# Altium schematic symbol library MCU_ST_STM32F0.SchLib: 133 symbols (part 3 of 3)

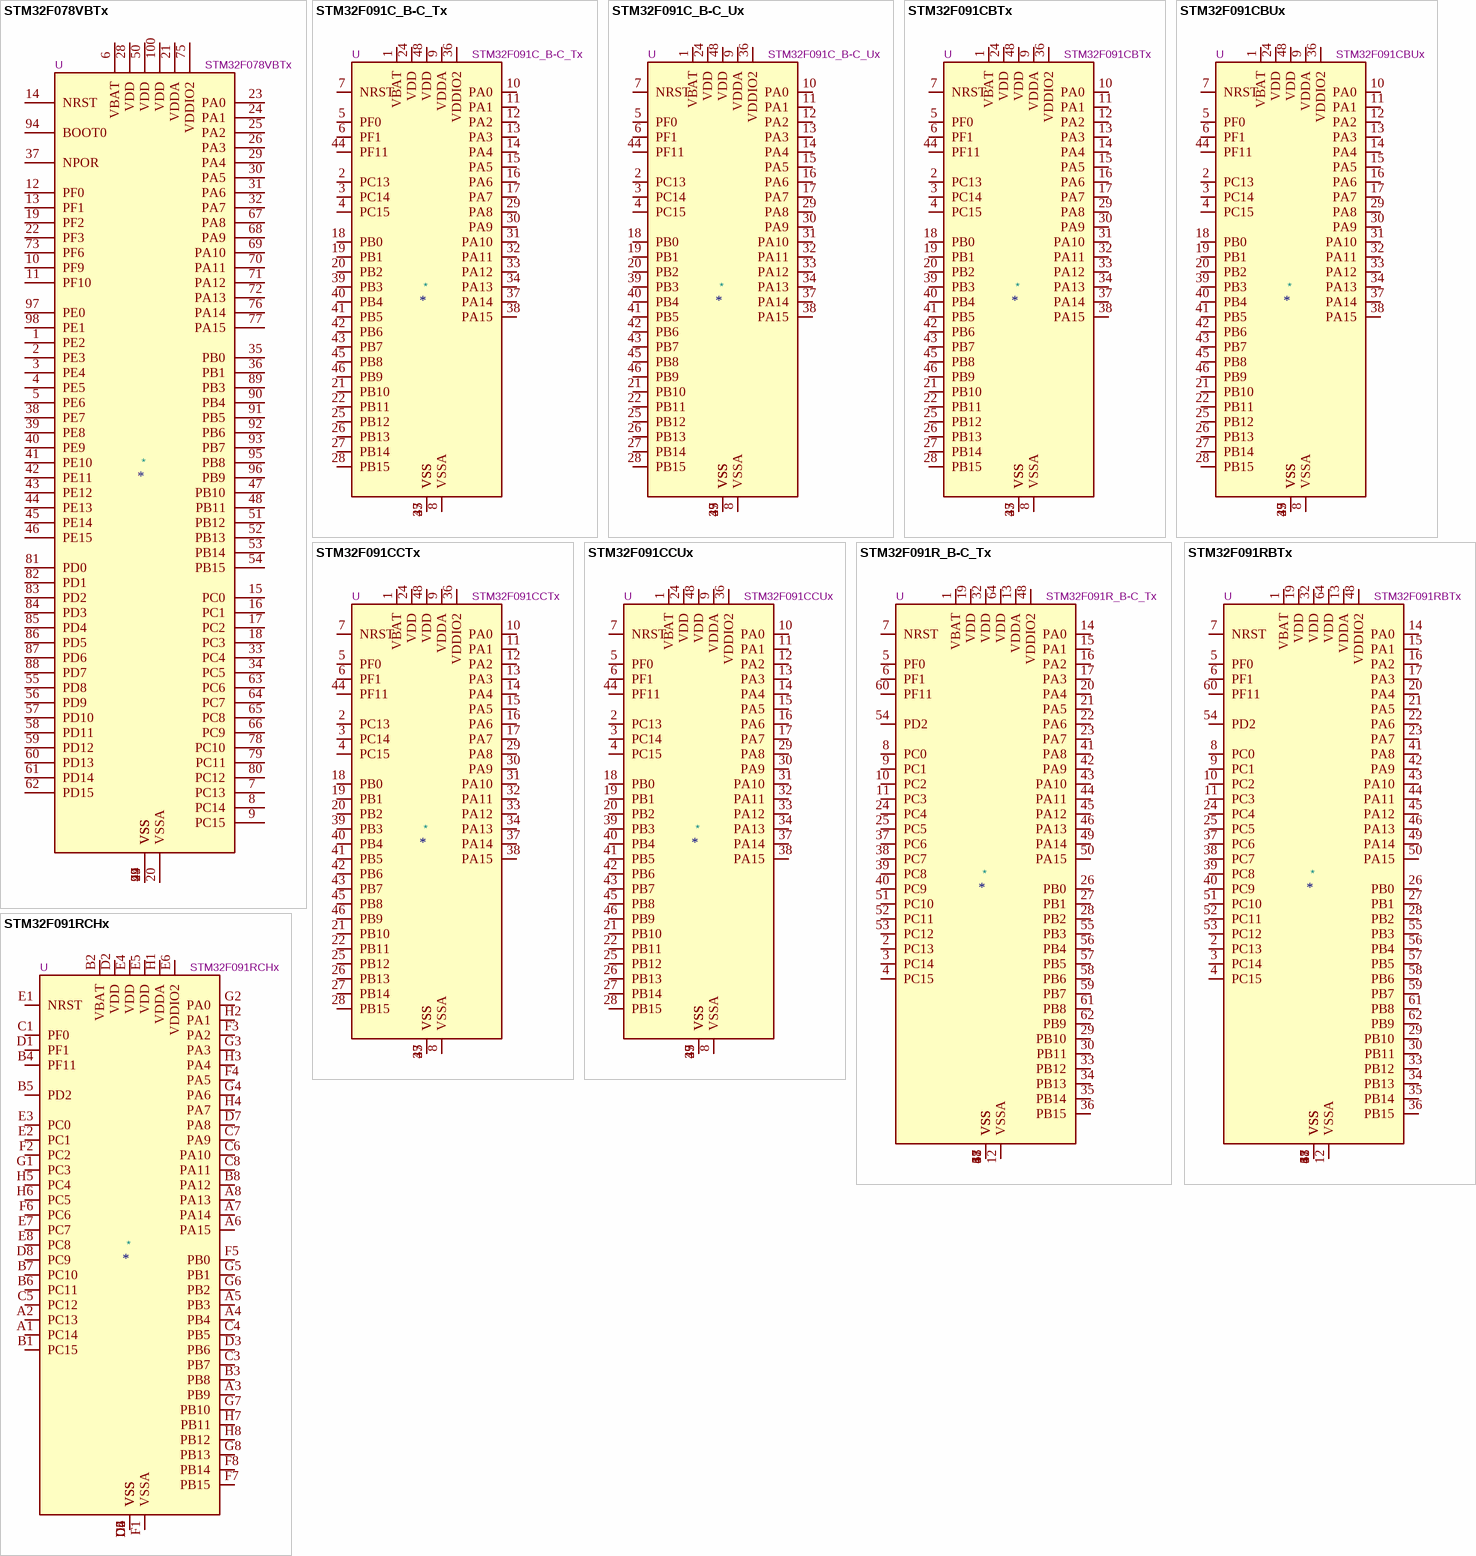
[diagram p9: symbols STM32F078VBTx to STM32F091RCHx]

## STM32F078VBTx
designator *  value STM32F078VBTx  Reference: U
STMicroelectronics Arm Cortex-M0 MCU, 128KB flash, 16KB RAM, 48 MHz, 1.65-1.95V, 86 GPIO, LQFP100; ki_keywords: Arm Cortex-M0 STM32F0 STM32F0x8; ki_fp_filters: LQFP*14x14mm*P0.5mm*; Footprint: Package_QFP:LQFP-100_14x14mm_P0.5mm; Datasheet: https://www.st.com/resource/en/datasheet/stm32f078vb.pdf; Description_: STMicroelectronics Arm Cortex-M0 MCU, 128KB flash, 16KB RAM, 48 MHz, 1.65-1.95V, 86 GPIO, LQFP100
pins: 1 PE2, 2 PE3, 3 PE4, 4 PE5, 5 PE6, 6 VBAT, 7 PC13, 8 PC14, 9 PC15, 10 PF9, 11 PF10, 12 PF0, 13 PF1, 14 NRST, 15 PC0, 16 PC1, 17 PC2, 18 PC3, 19 PF2, 20 VSSA, 21 VDDA, 22 PF3, 23 PA0, 24 PA1, 25 PA2, 26 PA3, 27 VSS, 28 VDD, 29 PA4, 30 PA5, 31 PA6, 32 PA7, 33 PC4, 34 PC5, 35 PB0, 36 PB1, 37 NPOR, 38 PE7, 39 PE8, 40 PE9, 41 PE10, 42 PE11, 43 PE12, 44 PE13, 45 PE14, 46 PE15, 47 PB10, 48 PB11, 49 VSS, 50 VDD, 51 PB12, 52 PB13, 53 PB14, 54 PB15, 55 PD8, 56 PD9, 57 PD10, 58 PD11, 59 PD12, 60 PD13, 61 PD14, 62 PD15, 63 PC6, 64 PC7, 65 PC8, 66 PC9, 67 PA8, 68 PA9, 69 PA10, 70 PA11, 71 PA12, 72 PA13, 73 PF6, 74 VSS, 75 VDDIO2, 76 PA14, 77 PA15, 78 PC10, 79 PC11, 80 PC12, 81 PD0, 82 PD1, 83 PD2, 84 PD3, 85 PD4, 86 PD5, 87 PD6, 88 PD7, 89 PB3, 90 PB4, 91 PB5, 92 PB6, 93 PB7, 94 BOOT0, 95 PB8, 96 PB9, 97 PE0, 98 PE1, 99 VSS, 100 VDD

## STM32F091C_B-C_Tx
designator *  value STM32F091C_B-C_Tx  Reference: U
STMicroelectronics Arm Cortex-M0 MCU, 128-256KB flash, 32KB RAM, 48 MHz, 2.0-3.6V, 38 GPIO, LQFP48; ki_keywords: Arm Cortex-M0 STM32F0 STM32F0x1; ki_fp_filters: LQFP*7x7mm*P0.5mm*; Footprint: Package_QFP:LQFP-48_7x7mm_P0.5mm; Datasheet: https://www.st.com/resource/en/datasheet/stm32f091cb.pdf; Description_: STMicroelectronics Arm Cortex-M0 MCU, 128-256KB flash, 32KB RAM, 48 MHz, 2.0-3.6V, 38 GPIO, LQFP48
pins: 1 VBAT, 2 PC13, 3 PC14, 4 PC15, 5 PF0, 6 PF1, 7 NRST, 8 VSSA, 9 VDDA, 10 PA0, 11 PA1, 12 PA2, 13 PA3, 14 PA4, 15 PA5, 16 PA6, 17 PA7, 18 PB0, 19 PB1, 20 PB2, 21 PB10, 22 PB11, 23 VSS, 24 VDD, 25 PB12, 26 PB13, 27 PB14, 28 PB15, 29 PA8, 30 PA9, 31 PA10, 32 PA11, 33 PA12, 34 PA13, 35 VSS, 36 VDDIO2, 37 PA14, 38 PA15, 39 PB3, 40 PB4, 41 PB5, 42 PB6, 43 PB7, 44 PF11, 45 PB8, 46 PB9, 47 VSS, 48 VDD

## STM32F091C_B-C_Ux
designator *  value STM32F091C_B-C_Ux  Reference: U
STMicroelectronics Arm Cortex-M0 MCU, 128-256KB flash, 32KB RAM, 48 MHz, 2.0-3.6V, 38 GPIO, UFQFPN48; ki_keywords: Arm Cortex-M0 STM32F0 STM32F0x1; ki_fp_filters: QFN*1EP*7x7mm*P0.5mm*; Footprint: Package_DFN_QFN:QFN-48-1EP_7x7mm_P0.5mm_EP5.6x5.6mm; Datasheet: https://www.st.com/resource/en/datasheet/stm32f091cb.pdf; Description_: STMicroelectronics Arm Cortex-M0 MCU, 128-256KB flash, 32KB RAM, 48 MHz, 2.0-3.6V, 38 GPIO, UFQFPN48
pins: 1 VBAT, 2 PC13, 3 PC14, 4 PC15, 5 PF0, 6 PF1, 7 NRST, 8 VSSA, 9 VDDA, 10 PA0, 11 PA1, 12 PA2, 13 PA3, 14 PA4, 15 PA5, 16 PA6, 17 PA7, 18 PB0, 19 PB1, 20 PB2, 21 PB10, 22 PB11, 23 VSS, 24 VDD, 25 PB12, 26 PB13, 27 PB14, 28 PB15, 29 PA8, 30 PA9, 31 PA10, 32 PA11, 33 PA12, 34 PA13, 35 VSS, 36 VDDIO2, 37 PA14, 38 PA15, 39 PB3, 40 PB4, 41 PB5, 42 PB6, 43 PB7, 44 PF11, 45 PB8, 46 PB9, 47 VSS, 48 VDD, 49 VSS

## STM32F091CBTx
designator *  value STM32F091CBTx  Reference: U
STMicroelectronics Arm Cortex-M0 MCU, 128KB flash, 32KB RAM, 48 MHz, 2.0-3.6V, 38 GPIO, LQFP48; ki_keywords: Arm Cortex-M0 STM32F0 STM32F0x1; ki_fp_filters: LQFP*7x7mm*P0.5mm*; Footprint: Package_QFP:LQFP-48_7x7mm_P0.5mm; Datasheet: https://www.st.com/resource/en/datasheet/stm32f091cb.pdf; Description_: STMicroelectronics Arm Cortex-M0 MCU, 128KB flash, 32KB RAM, 48 MHz, 2.0-3.6V, 38 GPIO, LQFP48
pins: 1 VBAT, 2 PC13, 3 PC14, 4 PC15, 5 PF0, 6 PF1, 7 NRST, 8 VSSA, 9 VDDA, 10 PA0, 11 PA1, 12 PA2, 13 PA3, 14 PA4, 15 PA5, 16 PA6, 17 PA7, 18 PB0, 19 PB1, 20 PB2, 21 PB10, 22 PB11, 23 VSS, 24 VDD, 25 PB12, 26 PB13, 27 PB14, 28 PB15, 29 PA8, 30 PA9, 31 PA10, 32 PA11, 33 PA12, 34 PA13, 35 VSS, 36 VDDIO2, 37 PA14, 38 PA15, 39 PB3, 40 PB4, 41 PB5, 42 PB6, 43 PB7, 44 PF11, 45 PB8, 46 PB9, 47 VSS, 48 VDD

## STM32F091CBUx
designator *  value STM32F091CBUx  Reference: U
STMicroelectronics Arm Cortex-M0 MCU, 128KB flash, 32KB RAM, 48 MHz, 2.0-3.6V, 38 GPIO, UFQFPN48; ki_keywords: Arm Cortex-M0 STM32F0 STM32F0x1; ki_fp_filters: QFN*1EP*7x7mm*P0.5mm*; Footprint: Package_DFN_QFN:QFN-48-1EP_7x7mm_P0.5mm_EP5.6x5.6mm; Datasheet: https://www.st.com/resource/en/datasheet/stm32f091cb.pdf; Description_: STMicroelectronics Arm Cortex-M0 MCU, 128KB flash, 32KB RAM, 48 MHz, 2.0-3.6V, 38 GPIO, UFQFPN48
pins: 1 VBAT, 2 PC13, 3 PC14, 4 PC15, 5 PF0, 6 PF1, 7 NRST, 8 VSSA, 9 VDDA, 10 PA0, 11 PA1, 12 PA2, 13 PA3, 14 PA4, 15 PA5, 16 PA6, 17 PA7, 18 PB0, 19 PB1, 20 PB2, 21 PB10, 22 PB11, 23 VSS, 24 VDD, 25 PB12, 26 PB13, 27 PB14, 28 PB15, 29 PA8, 30 PA9, 31 PA10, 32 PA11, 33 PA12, 34 PA13, 35 VSS, 36 VDDIO2, 37 PA14, 38 PA15, 39 PB3, 40 PB4, 41 PB5, 42 PB6, 43 PB7, 44 PF11, 45 PB8, 46 PB9, 47 VSS, 48 VDD, 49 VSS

## STM32F091CCTx
designator *  value STM32F091CCTx  Reference: U
STMicroelectronics Arm Cortex-M0 MCU, 256KB flash, 32KB RAM, 48 MHz, 2.0-3.6V, 38 GPIO, LQFP48; ki_keywords: Arm Cortex-M0 STM32F0 STM32F0x1; ki_fp_filters: LQFP*7x7mm*P0.5mm*; Footprint: Package_QFP:LQFP-48_7x7mm_P0.5mm; Datasheet: https://www.st.com/resource/en/datasheet/stm32f091cc.pdf; Description_: STMicroelectronics Arm Cortex-M0 MCU, 256KB flash, 32KB RAM, 48 MHz, 2.0-3.6V, 38 GPIO, LQFP48
pins: 1 VBAT, 2 PC13, 3 PC14, 4 PC15, 5 PF0, 6 PF1, 7 NRST, 8 VSSA, 9 VDDA, 10 PA0, 11 PA1, 12 PA2, 13 PA3, 14 PA4, 15 PA5, 16 PA6, 17 PA7, 18 PB0, 19 PB1, 20 PB2, 21 PB10, 22 PB11, 23 VSS, 24 VDD, 25 PB12, 26 PB13, 27 PB14, 28 PB15, 29 PA8, 30 PA9, 31 PA10, 32 PA11, 33 PA12, 34 PA13, 35 VSS, 36 VDDIO2, 37 PA14, 38 PA15, 39 PB3, 40 PB4, 41 PB5, 42 PB6, 43 PB7, 44 PF11, 45 PB8, 46 PB9, 47 VSS, 48 VDD

## STM32F091CCUx
designator *  value STM32F091CCUx  Reference: U
STMicroelectronics Arm Cortex-M0 MCU, 256KB flash, 32KB RAM, 48 MHz, 2.0-3.6V, 38 GPIO, UFQFPN48; ki_keywords: Arm Cortex-M0 STM32F0 STM32F0x1; ki_fp_filters: QFN*1EP*7x7mm*P0.5mm*; Footprint: Package_DFN_QFN:QFN-48-1EP_7x7mm_P0.5mm_EP5.6x5.6mm; Datasheet: https://www.st.com/resource/en/datasheet/stm32f091cc.pdf; Description_: STMicroelectronics Arm Cortex-M0 MCU, 256KB flash, 32KB RAM, 48 MHz, 2.0-3.6V, 38 GPIO, UFQFPN48
pins: 1 VBAT, 2 PC13, 3 PC14, 4 PC15, 5 PF0, 6 PF1, 7 NRST, 8 VSSA, 9 VDDA, 10 PA0, 11 PA1, 12 PA2, 13 PA3, 14 PA4, 15 PA5, 16 PA6, 17 PA7, 18 PB0, 19 PB1, 20 PB2, 21 PB10, 22 PB11, 23 VSS, 24 VDD, 25 PB12, 26 PB13, 27 PB14, 28 PB15, 29 PA8, 30 PA9, 31 PA10, 32 PA11, 33 PA12, 34 PA13, 35 VSS, 36 VDDIO2, 37 PA14, 38 PA15, 39 PB3, 40 PB4, 41 PB5, 42 PB6, 43 PB7, 44 PF11, 45 PB8, 46 PB9, 47 VSS, 48 VDD, 49 VSS

## STM32F091R_B-C_Tx
designator *  value STM32F091R_B-C_Tx  Reference: U
STMicroelectronics Arm Cortex-M0 MCU, 128-256KB flash, 32KB RAM, 48 MHz, 2.0-3.6V, 52 GPIO, LQFP64; ki_keywords: Arm Cortex-M0 STM32F0 STM32F0x1; ki_fp_filters: LQFP*10x10mm*P0.5mm*; Footprint: Package_QFP:LQFP-64_10x10mm_P0.5mm; Datasheet: https://www.st.com/resource/en/datasheet/stm32f091rb.pdf; Description_: STMicroelectronics Arm Cortex-M0 MCU, 128-256KB flash, 32KB RAM, 48 MHz, 2.0-3.6V, 52 GPIO, LQFP64
pins: 1 VBAT, 2 PC13, 3 PC14, 4 PC15, 5 PF0, 6 PF1, 7 NRST, 8 PC0, 9 PC1, 10 PC2, 11 PC3, 12 VSSA, 13 VDDA, 14 PA0, 15 PA1, 16 PA2, 17 PA3, 18 VSS, 19 VDD, 20 PA4, 21 PA5, 22 PA6, 23 PA7, 24 PC4, 25 PC5, 26 PB0, 27 PB1, 28 PB2, 29 PB10, 30 PB11, 31 VSS, 32 VDD, 33 PB12, 34 PB13, 35 PB14, 36 PB15, 37 PC6, 38 PC7, 39 PC8, 40 PC9, 41 PA8, 42 PA9, 43 PA10, 44 PA11, 45 PA12, 46 PA13, 47 VSS, 48 VDDIO2, 49 PA14, 50 PA15, 51 PC10, 52 PC11, 53 PC12, 54 PD2, 55 PB3, 56 PB4, 57 PB5, 58 PB6, 59 PB7, 60 PF11, 61 PB8, 62 PB9, 63 VSS, 64 VDD

## STM32F091RBTx
designator *  value STM32F091RBTx  Reference: U
STMicroelectronics Arm Cortex-M0 MCU, 128KB flash, 32KB RAM, 48 MHz, 2.0-3.6V, 52 GPIO, LQFP64; ki_keywords: Arm Cortex-M0 STM32F0 STM32F0x1; ki_fp_filters: LQFP*10x10mm*P0.5mm*; Footprint: Package_QFP:LQFP-64_10x10mm_P0.5mm; Datasheet: https://www.st.com/resource/en/datasheet/stm32f091rb.pdf; Description_: STMicroelectronics Arm Cortex-M0 MCU, 128KB flash, 32KB RAM, 48 MHz, 2.0-3.6V, 52 GPIO, LQFP64
pins: 1 VBAT, 2 PC13, 3 PC14, 4 PC15, 5 PF0, 6 PF1, 7 NRST, 8 PC0, 9 PC1, 10 PC2, 11 PC3, 12 VSSA, 13 VDDA, 14 PA0, 15 PA1, 16 PA2, 17 PA3, 18 VSS, 19 VDD, 20 PA4, 21 PA5, 22 PA6, 23 PA7, 24 PC4, 25 PC5, 26 PB0, 27 PB1, 28 PB2, 29 PB10, 30 PB11, 31 VSS, 32 VDD, 33 PB12, 34 PB13, 35 PB14, 36 PB15, 37 PC6, 38 PC7, 39 PC8, 40 PC9, 41 PA8, 42 PA9, 43 PA10, 44 PA11, 45 PA12, 46 PA13, 47 VSS, 48 VDDIO2, 49 PA14, 50 PA15, 51 PC10, 52 PC11, 53 PC12, 54 PD2, 55 PB3, 56 PB4, 57 PB5, 58 PB6, 59 PB7, 60 PF11, 61 PB8, 62 PB9, 63 VSS, 64 VDD

## STM32F091RCHx
designator *  value STM32F091RCHx  Reference: U
STMicroelectronics Arm Cortex-M0 MCU, 256KB flash, 32KB RAM, 48 MHz, 2.0-3.6V, 52 GPIO, UFBGA64; ki_keywords: Arm Cortex-M0 STM32F0 STM32F0x1; ki_fp_filters: UFBGA*5x5mm*Layout8x8*P0.5mm*; Footprint: Package_BGA:UFBGA-64_5x5mm_Layout8x8_P0.5mm; Datasheet: https://www.st.com/resource/en/datasheet/stm32f091rc.pdf; Description_: STMicroelectronics Arm Cortex-M0 MCU, 256KB flash, 32KB RAM, 48 MHz, 2.0-3.6V, 52 GPIO, UFBGA64
pins: A1 PC14, A2 PC13, A3 PB9, A4 PB4, A5 PB3, A6 PA15, A7 PA14, A8 PA13, B1 PC15, B2 VBAT, B3 PB8, B4 PF11, B5 PD2, B6 PC11, B7 PC10, B8 PA12, C1 PF0, C2 VSS, C3 PB7, C4 PB5, C5 PC12, C6 PA10, C7 PA9, C8 PA11, D1 PF1, D2 VDD, D3 PB6, D4 VSS, D5 VSS, D6 VSS, D7 PA8, D8 PC9, E1 NRST, E2 PC1, E3 PC0, E4 VDD, E5 VDD, E6 VDDIO2, E7 PC7, E8 PC8, F1 VSSA, F2 PC2, F3 PA2, F4 PA5, F5 PB0, F6 PC6, F7 PB15, F8 PB14, G1 PC3, G2 PA0, G3 PA3, G4 PA6, G5 PB1, G6 PB2, G7 PB10, G8 PB13, H1 VDDA, H2 PA1, H3 PA4, H4 PA7, H5 PC4, H6 PC5, H7 PB11, H8 PB12

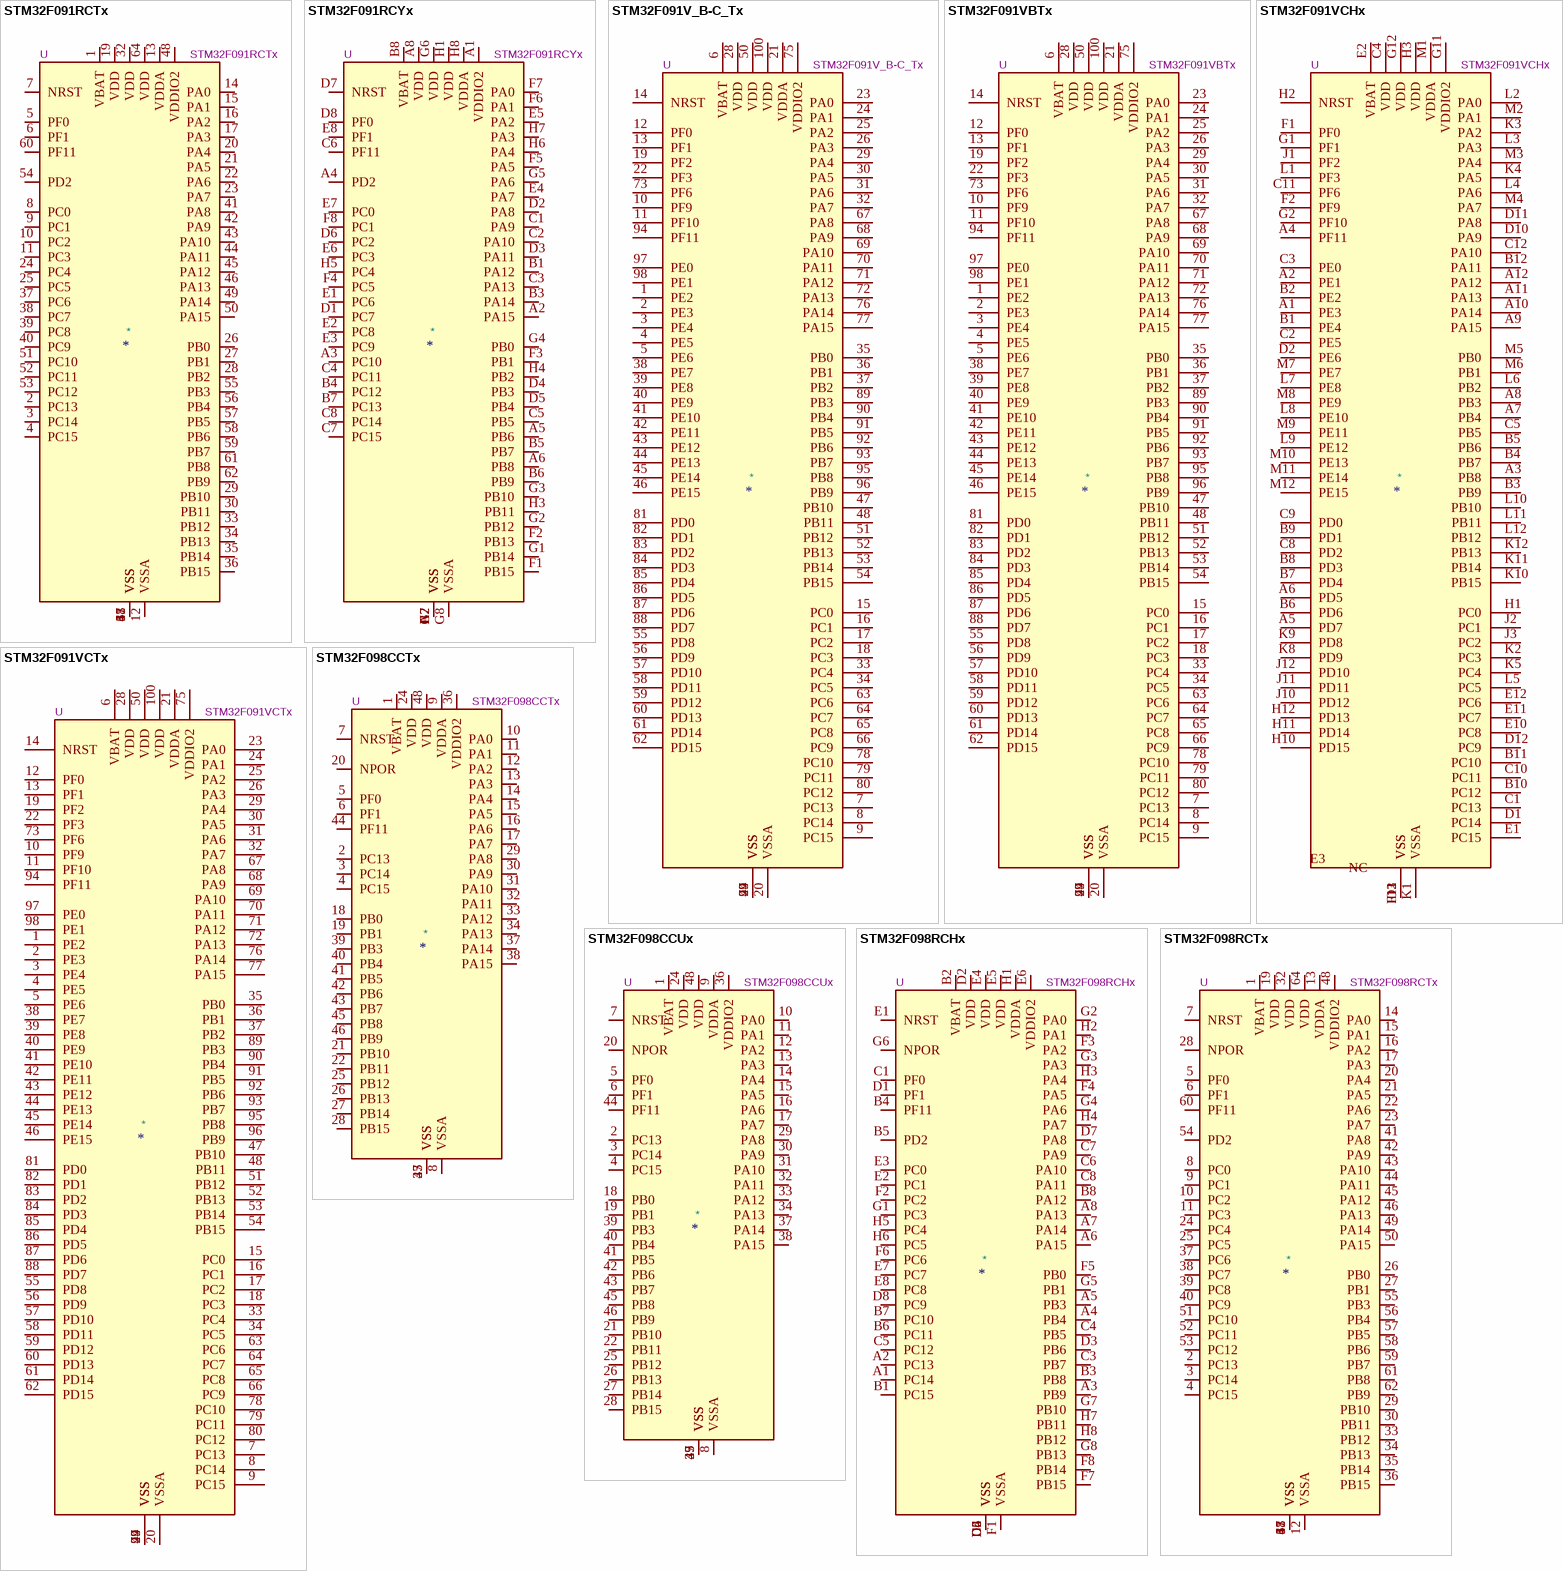
[diagram p10: symbols STM32F091RCTx to STM32F098RCTx]

## STM32F091RCTx
designator *  value STM32F091RCTx  Reference: U
STMicroelectronics Arm Cortex-M0 MCU, 256KB flash, 32KB RAM, 48 MHz, 2.0-3.6V, 52 GPIO, LQFP64; ki_keywords: Arm Cortex-M0 STM32F0 STM32F0x1; ki_fp_filters: LQFP*10x10mm*P0.5mm*; Footprint: Package_QFP:LQFP-64_10x10mm_P0.5mm; Datasheet: https://www.st.com/resource/en/datasheet/stm32f091rc.pdf; Description_: STMicroelectronics Arm Cortex-M0 MCU, 256KB flash, 32KB RAM, 48 MHz, 2.0-3.6V, 52 GPIO, LQFP64
pins: 1 VBAT, 2 PC13, 3 PC14, 4 PC15, 5 PF0, 6 PF1, 7 NRST, 8 PC0, 9 PC1, 10 PC2, 11 PC3, 12 VSSA, 13 VDDA, 14 PA0, 15 PA1, 16 PA2, 17 PA3, 18 VSS, 19 VDD, 20 PA4, 21 PA5, 22 PA6, 23 PA7, 24 PC4, 25 PC5, 26 PB0, 27 PB1, 28 PB2, 29 PB10, 30 PB11, 31 VSS, 32 VDD, 33 PB12, 34 PB13, 35 PB14, 36 PB15, 37 PC6, 38 PC7, 39 PC8, 40 PC9, 41 PA8, 42 PA9, 43 PA10, 44 PA11, 45 PA12, 46 PA13, 47 VSS, 48 VDDIO2, 49 PA14, 50 PA15, 51 PC10, 52 PC11, 53 PC12, 54 PD2, 55 PB3, 56 PB4, 57 PB5, 58 PB6, 59 PB7, 60 PF11, 61 PB8, 62 PB9, 63 VSS, 64 VDD

## STM32F091RCYx
designator *  value STM32F091RCYx  Reference: U
STMicroelectronics Arm Cortex-M0 MCU, 256KB flash, 32KB RAM, 48 MHz, 2.0-3.6V, 52 GPIO, WLCSP64; ki_keywords: Arm Cortex-M0 STM32F0 STM32F0x1; ki_fp_filters: ST*WLCSP*Die442*; Footprint: Package_CSP:ST_WLCSP-64_Die442; Datasheet: https://www.st.com/resource/en/datasheet/stm32f091rc.pdf; Description_: STMicroelectronics Arm Cortex-M0 MCU, 256KB flash, 32KB RAM, 48 MHz, 2.0-3.6V, 52 GPIO, WLCSP64
pins: A1 VDDIO2, A2 PA15, A3 PC10, A4 PD2, A5 PB6, A6 PB8, A7 VSS, A8 VDD, B1 PA12, B2 VSS, B3 PA14, B4 PC12, B5 PB7, B6 PB9, B7 PC13, B8 VBAT, C1 PA9, C2 PA10, C3 PA13, C4 PC11, C5 PB5, C6 PF11, C7 PC15, C8 PC14, D1 PC7, D2 PA8, D3 PA11, D4 PB3, D5 PB4, D6 PC2, D7 NRST, D8 PF0, E1 PC6, E2 PC8, E3 PC9, E4 PA7, E5 PA2, E6 PC3, E7 PC0, E8 PF1, F1 PB15, F2 PB13, F3 PB1, F4 PC5, F5 PA5, F6 PA1, F7 PA0, F8 PC1, G1 PB14, G2 PB12, G3 PB10, G4 PB0, G5 PA6, G6 VDD, G7 VSS, G8 VSSA, H1 VDD, H2 VSS, H3 PB11, H4 PB2, H5 PC4, H6 PA4, H7 PA3, H8 VDDA

## STM32F091V_B-C_Tx
designator *  value STM32F091V_B-C_Tx  Reference: U
STMicroelectronics Arm Cortex-M0 MCU, 128-256KB flash, 32KB RAM, 48 MHz, 2.0-3.6V, 88 GPIO, LQFP100; ki_keywords: Arm Cortex-M0 STM32F0 STM32F0x1; ki_fp_filters: LQFP*14x14mm*P0.5mm*; Footprint: Package_QFP:LQFP-100_14x14mm_P0.5mm; Datasheet: https://www.st.com/resource/en/datasheet/stm32f091vb.pdf; Description_: STMicroelectronics Arm Cortex-M0 MCU, 128-256KB flash, 32KB RAM, 48 MHz, 2.0-3.6V, 88 GPIO, LQFP100
pins: 1 PE2, 2 PE3, 3 PE4, 4 PE5, 5 PE6, 6 VBAT, 7 PC13, 8 PC14, 9 PC15, 10 PF9, 11 PF10, 12 PF0, 13 PF1, 14 NRST, 15 PC0, 16 PC1, 17 PC2, 18 PC3, 19 PF2, 20 VSSA, 21 VDDA, 22 PF3, 23 PA0, 24 PA1, 25 PA2, 26 PA3, 27 VSS, 28 VDD, 29 PA4, 30 PA5, 31 PA6, 32 PA7, 33 PC4, 34 PC5, 35 PB0, 36 PB1, 37 PB2, 38 PE7, 39 PE8, 40 PE9, 41 PE10, 42 PE11, 43 PE12, 44 PE13, 45 PE14, 46 PE15, 47 PB10, 48 PB11, 49 VSS, 50 VDD, 51 PB12, 52 PB13, 53 PB14, 54 PB15, 55 PD8, 56 PD9, 57 PD10, 58 PD11, 59 PD12, 60 PD13, 61 PD14, 62 PD15, 63 PC6, 64 PC7, 65 PC8, 66 PC9, 67 PA8, 68 PA9, 69 PA10, 70 PA11, 71 PA12, 72 PA13, 73 PF6, 74 VSS, 75 VDDIO2, 76 PA14, 77 PA15, 78 PC10, 79 PC11, 80 PC12, 81 PD0, 82 PD1, 83 PD2, 84 PD3, 85 PD4, 86 PD5, 87 PD6, 88 PD7, 89 PB3, 90 PB4, 91 PB5, 92 PB6, 93 PB7, 94 PF11, 95 PB8, 96 PB9, 97 PE0, 98 PE1, 99 VSS, 100 VDD

## STM32F091VBTx
designator *  value STM32F091VBTx  Reference: U
STMicroelectronics Arm Cortex-M0 MCU, 128KB flash, 32KB RAM, 48 MHz, 2.0-3.6V, 88 GPIO, LQFP100; ki_keywords: Arm Cortex-M0 STM32F0 STM32F0x1; ki_fp_filters: LQFP*14x14mm*P0.5mm*; Footprint: Package_QFP:LQFP-100_14x14mm_P0.5mm; Datasheet: https://www.st.com/resource/en/datasheet/stm32f091vb.pdf; Description_: STMicroelectronics Arm Cortex-M0 MCU, 128KB flash, 32KB RAM, 48 MHz, 2.0-3.6V, 88 GPIO, LQFP100
pins: 1 PE2, 2 PE3, 3 PE4, 4 PE5, 5 PE6, 6 VBAT, 7 PC13, 8 PC14, 9 PC15, 10 PF9, 11 PF10, 12 PF0, 13 PF1, 14 NRST, 15 PC0, 16 PC1, 17 PC2, 18 PC3, 19 PF2, 20 VSSA, 21 VDDA, 22 PF3, 23 PA0, 24 PA1, 25 PA2, 26 PA3, 27 VSS, 28 VDD, 29 PA4, 30 PA5, 31 PA6, 32 PA7, 33 PC4, 34 PC5, 35 PB0, 36 PB1, 37 PB2, 38 PE7, 39 PE8, 40 PE9, 41 PE10, 42 PE11, 43 PE12, 44 PE13, 45 PE14, 46 PE15, 47 PB10, 48 PB11, 49 VSS, 50 VDD, 51 PB12, 52 PB13, 53 PB14, 54 PB15, 55 PD8, 56 PD9, 57 PD10, 58 PD11, 59 PD12, 60 PD13, 61 PD14, 62 PD15, 63 PC6, 64 PC7, 65 PC8, 66 PC9, 67 PA8, 68 PA9, 69 PA10, 70 PA11, 71 PA12, 72 PA13, 73 PF6, 74 VSS, 75 VDDIO2, 76 PA14, 77 PA15, 78 PC10, 79 PC11, 80 PC12, 81 PD0, 82 PD1, 83 PD2, 84 PD3, 85 PD4, 86 PD5, 87 PD6, 88 PD7, 89 PB3, 90 PB4, 91 PB5, 92 PB6, 93 PB7, 94 PF11, 95 PB8, 96 PB9, 97 PE0, 98 PE1, 99 VSS, 100 VDD

## STM32F091VCHx
designator *  value STM32F091VCHx  Reference: U
STMicroelectronics Arm Cortex-M0 MCU, 256KB flash, 32KB RAM, 48 MHz, 2.0-3.6V, 88 GPIO, UFBGA100; ki_keywords: Arm Cortex-M0 STM32F0 STM32F0x1; ki_fp_filters: UFBGA*7x7mm*Layout12x12*P0.5mm*; Footprint: Package_BGA:UFBGA-100_7x7mm_Layout12x12_P0.5mm; Datasheet: https://www.st.com/resource/en/datasheet/stm32f091vc.pdf; Description_: STMicroelectronics Arm Cortex-M0 MCU, 256KB flash, 32KB RAM, 48 MHz, 2.0-3.6V, 88 GPIO, UFBGA100
pins: A1 PE3, A2 PE1, A3 PB8, A4 PF11, A5 PD7, A6 PD5, A7 PB4, A8 PB3, A9 PA15, A10 PA14, A11 PA13, A12 PA12, B1 PE4, B2 PE2, B3 PB9, B4 PB7, B5 PB6, B6 PD6, B7 PD4, B8 PD3, B9 PD1, B10 PC12, B11 PC10, B12 PA11, C1 PC13, C2 PE5, C3 PE0, C4 VDD, C5 PB5, C8 PD2, C9 PD0, C10 PC11, C11 PF6, C12 PA10, D1 PC14, D2 PE6, D3 VSS, D10 PA9, D11 PA8, D12 PC9, E1 PC15, E2 VBAT, E3 NC, E10 PC8, E11 PC7, E12 PC6, F1 PF0, F2 PF9, F11 VSS, F12 VSS, G1 PF1, G2 PF10, G11 VDDIO2, G12 VDD, H1 PC0, H2 NRST, H3 VDD, H10 PD15, H11 PD14, H12 PD13, J1 PF2, J2 PC1, J3 PC2, J10 PD12, J11 PD11, J12 PD10, K1 VSSA, K2 PC3, K3 PA2, K4 PA5, K5 PC4, K8 PD9, K9 PD8, K10 PB15, K11 PB14, K12 PB13, L1 PF3, L2 PA0, L3 PA3, L4 PA6, L5 PC5, L6 PB2, L7 PE8, L8 PE10, L9 PE12, L10 PB10, L11 PB11, L12 PB12, M1 VDDA, M2 PA1, M3 PA4, M4 PA7, M5 PB0, M6 PB1, M7 PE7, M8 PE9, M9 PE11, M10 PE13, M11 PE14, M12 PE15

## STM32F091VCTx
designator *  value STM32F091VCTx  Reference: U
STMicroelectronics Arm Cortex-M0 MCU, 256KB flash, 32KB RAM, 48 MHz, 2.0-3.6V, 88 GPIO, LQFP100; ki_keywords: Arm Cortex-M0 STM32F0 STM32F0x1; ki_fp_filters: LQFP*14x14mm*P0.5mm*; Footprint: Package_QFP:LQFP-100_14x14mm_P0.5mm; Datasheet: https://www.st.com/resource/en/datasheet/stm32f091vc.pdf; Description_: STMicroelectronics Arm Cortex-M0 MCU, 256KB flash, 32KB RAM, 48 MHz, 2.0-3.6V, 88 GPIO, LQFP100
pins: 1 PE2, 2 PE3, 3 PE4, 4 PE5, 5 PE6, 6 VBAT, 7 PC13, 8 PC14, 9 PC15, 10 PF9, 11 PF10, 12 PF0, 13 PF1, 14 NRST, 15 PC0, 16 PC1, 17 PC2, 18 PC3, 19 PF2, 20 VSSA, 21 VDDA, 22 PF3, 23 PA0, 24 PA1, 25 PA2, 26 PA3, 27 VSS, 28 VDD, 29 PA4, 30 PA5, 31 PA6, 32 PA7, 33 PC4, 34 PC5, 35 PB0, 36 PB1, 37 PB2, 38 PE7, 39 PE8, 40 PE9, 41 PE10, 42 PE11, 43 PE12, 44 PE13, 45 PE14, 46 PE15, 47 PB10, 48 PB11, 49 VSS, 50 VDD, 51 PB12, 52 PB13, 53 PB14, 54 PB15, 55 PD8, 56 PD9, 57 PD10, 58 PD11, 59 PD12, 60 PD13, 61 PD14, 62 PD15, 63 PC6, 64 PC7, 65 PC8, 66 PC9, 67 PA8, 68 PA9, 69 PA10, 70 PA11, 71 PA12, 72 PA13, 73 PF6, 74 VSS, 75 VDDIO2, 76 PA14, 77 PA15, 78 PC10, 79 PC11, 80 PC12, 81 PD0, 82 PD1, 83 PD2, 84 PD3, 85 PD4, 86 PD5, 87 PD6, 88 PD7, 89 PB3, 90 PB4, 91 PB5, 92 PB6, 93 PB7, 94 PF11, 95 PB8, 96 PB9, 97 PE0, 98 PE1, 99 VSS, 100 VDD

## STM32F098CCTx
designator *  value STM32F098CCTx  Reference: U
STMicroelectronics Arm Cortex-M0 MCU, 256KB flash, 32KB RAM, 48 MHz, 1.65-1.95V, 37 GPIO, LQFP48; ki_keywords: Arm Cortex-M0 STM32F0 STM32F0x8; ki_fp_filters: LQFP*7x7mm*P0.5mm*; Footprint: Package_QFP:LQFP-48_7x7mm_P0.5mm; Datasheet: https://www.st.com/resource/en/datasheet/stm32f098cc.pdf; Description_: STMicroelectronics Arm Cortex-M0 MCU, 256KB flash, 32KB RAM, 48 MHz, 1.65-1.95V, 37 GPIO, LQFP48
pins: 1 VBAT, 2 PC13, 3 PC14, 4 PC15, 5 PF0, 6 PF1, 7 NRST, 8 VSSA, 9 VDDA, 10 PA0, 11 PA1, 12 PA2, 13 PA3, 14 PA4, 15 PA5, 16 PA6, 17 PA7, 18 PB0, 19 PB1, 20 NPOR, 21 PB10, 22 PB11, 23 VSS, 24 VDD, 25 PB12, 26 PB13, 27 PB14, 28 PB15, 29 PA8, 30 PA9, 31 PA10, 32 PA11, 33 PA12, 34 PA13, 35 VSS, 36 VDDIO2, 37 PA14, 38 PA15, 39 PB3, 40 PB4, 41 PB5, 42 PB6, 43 PB7, 44 PF11, 45 PB8, 46 PB9, 47 VSS, 48 VDD

## STM32F098CCUx
designator *  value STM32F098CCUx  Reference: U
STMicroelectronics Arm Cortex-M0 MCU, 256KB flash, 32KB RAM, 48 MHz, 1.65-1.95V, 37 GPIO, UFQFPN48; ki_keywords: Arm Cortex-M0 STM32F0 STM32F0x8; ki_fp_filters: QFN*1EP*7x7mm*P0.5mm*; Footprint: Package_DFN_QFN:QFN-48-1EP_7x7mm_P0.5mm_EP5.6x5.6mm; Datasheet: https://www.st.com/resource/en/datasheet/stm32f098cc.pdf; Description_: STMicroelectronics Arm Cortex-M0 MCU, 256KB flash, 32KB RAM, 48 MHz, 1.65-1.95V, 37 GPIO, UFQFPN48
pins: 1 VBAT, 2 PC13, 3 PC14, 4 PC15, 5 PF0, 6 PF1, 7 NRST, 8 VSSA, 9 VDDA, 10 PA0, 11 PA1, 12 PA2, 13 PA3, 14 PA4, 15 PA5, 16 PA6, 17 PA7, 18 PB0, 19 PB1, 20 NPOR, 21 PB10, 22 PB11, 23 VSS, 24 VDD, 25 PB12, 26 PB13, 27 PB14, 28 PB15, 29 PA8, 30 PA9, 31 PA10, 32 PA11, 33 PA12, 34 PA13, 35 VSS, 36 VDDIO2, 37 PA14, 38 PA15, 39 PB3, 40 PB4, 41 PB5, 42 PB6, 43 PB7, 44 PF11, 45 PB8, 46 PB9, 47 VSS, 48 VDD, 49 VSS

## STM32F098RCHx
designator *  value STM32F098RCHx  Reference: U
STMicroelectronics Arm Cortex-M0 MCU, 256KB flash, 32KB RAM, 48 MHz, 1.65-1.95V, 51 GPIO, UFBGA64; ki_keywords: Arm Cortex-M0 STM32F0 STM32F0x8; ki_fp_filters: UFBGA*5x5mm*Layout8x8*P0.5mm*; Footprint: Package_BGA:UFBGA-64_5x5mm_Layout8x8_P0.5mm; Datasheet: https://www.st.com/resource/en/datasheet/stm32f098rc.pdf; Description_: STMicroelectronics Arm Cortex-M0 MCU, 256KB flash, 32KB RAM, 48 MHz, 1.65-1.95V, 51 GPIO, UFBGA64
pins: A1 PC14, A2 PC13, A3 PB9, A4 PB4, A5 PB3, A6 PA15, A7 PA14, A8 PA13, B1 PC15, B2 VBAT, B3 PB8, B4 PF11, B5 PD2, B6 PC11, B7 PC10, B8 PA12, C1 PF0, C2 VSS, C3 PB7, C4 PB5, C5 PC12, C6 PA10, C7 PA9, C8 PA11, D1 PF1, D2 VDD, D3 PB6, D4 VSS, D5 VSS, D6 VSS, D7 PA8, D8 PC9, E1 NRST, E2 PC1, E3 PC0, E4 VDD, E5 VDD, E6 VDDIO2, E7 PC7, E8 PC8, F1 VSSA, F2 PC2, F3 PA2, F4 PA5, F5 PB0, F6 PC6, F7 PB15, F8 PB14, G1 PC3, G2 PA0, G3 PA3, G4 PA6, G5 PB1, G6 NPOR, G7 PB10, G8 PB13, H1 VDDA, H2 PA1, H3 PA4, H4 PA7, H5 PC4, H6 PC5, H7 PB11, H8 PB12

## STM32F098RCTx
designator *  value STM32F098RCTx  Reference: U
STMicroelectronics Arm Cortex-M0 MCU, 256KB flash, 32KB RAM, 48 MHz, 1.65-1.95V, 51 GPIO, LQFP64; ki_keywords: Arm Cortex-M0 STM32F0 STM32F0x8; ki_fp_filters: LQFP*10x10mm*P0.5mm*; Footprint: Package_QFP:LQFP-64_10x10mm_P0.5mm; Datasheet: https://www.st.com/resource/en/datasheet/stm32f098rc.pdf; Description_: STMicroelectronics Arm Cortex-M0 MCU, 256KB flash, 32KB RAM, 48 MHz, 1.65-1.95V, 51 GPIO, LQFP64
pins: 1 VBAT, 2 PC13, 3 PC14, 4 PC15, 5 PF0, 6 PF1, 7 NRST, 8 PC0, 9 PC1, 10 PC2, 11 PC3, 12 VSSA, 13 VDDA, 14 PA0, 15 PA1, 16 PA2, 17 PA3, 18 VSS, 19 VDD, 20 PA4, 21 PA5, 22 PA6, 23 PA7, 24 PC4, 25 PC5, 26 PB0, 27 PB1, 28 NPOR, 29 PB10, 30 PB11, 31 VSS, 32 VDD, 33 PB12, 34 PB13, 35 PB14, 36 PB15, 37 PC6, 38 PC7, 39 PC8, 40 PC9, 41 PA8, 42 PA9, 43 PA10, 44 PA11, 45 PA12, 46 PA13, 47 VSS, 48 VDDIO2, 49 PA14, 50 PA15, 51 PC10, 52 PC11, 53 PC12, 54 PD2, 55 PB3, 56 PB4, 57 PB5, 58 PB6, 59 PB7, 60 PF11, 61 PB8, 62 PB9, 63 VSS, 64 VDD

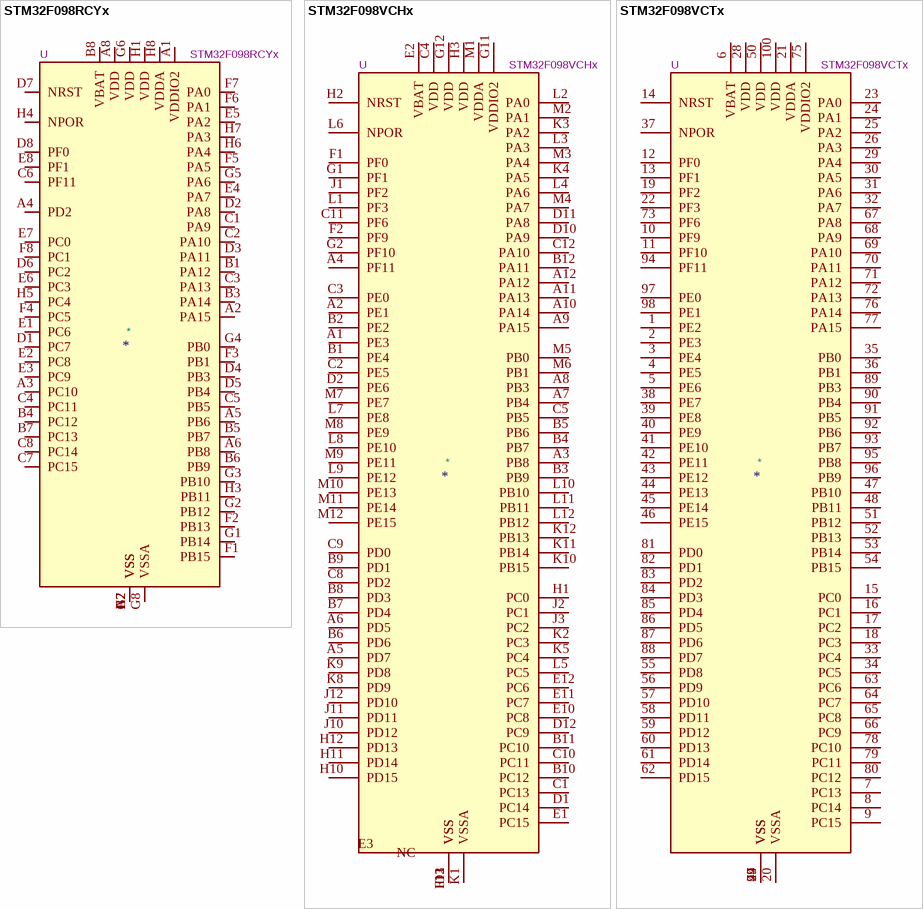
[diagram p11: symbols STM32F098RCYx to STM32F098VCTx]

## STM32F098RCYx
designator *  value STM32F098RCYx  Reference: U
STMicroelectronics Arm Cortex-M0 MCU, 256KB flash, 32KB RAM, 48 MHz, 1.65-1.95V, 51 GPIO, WLCSP64; ki_keywords: Arm Cortex-M0 STM32F0 STM32F0x8; ki_fp_filters: ST*WLCSP*Die442*; Footprint: Package_CSP:ST_WLCSP-64_Die442; Datasheet: https://www.st.com/resource/en/datasheet/stm32f098rc.pdf; Description_: STMicroelectronics Arm Cortex-M0 MCU, 256KB flash, 32KB RAM, 48 MHz, 1.65-1.95V, 51 GPIO, WLCSP64
pins: A1 VDDIO2, A2 PA15, A3 PC10, A4 PD2, A5 PB6, A6 PB8, A7 VSS, A8 VDD, B1 PA12, B2 VSS, B3 PA14, B4 PC12, B5 PB7, B6 PB9, B7 PC13, B8 VBAT, C1 PA9, C2 PA10, C3 PA13, C4 PC11, C5 PB5, C6 PF11, C7 PC15, C8 PC14, D1 PC7, D2 PA8, D3 PA11, D4 PB3, D5 PB4, D6 PC2, D7 NRST, D8 PF0, E1 PC6, E2 PC8, E3 PC9, E4 PA7, E5 PA2, E6 PC3, E7 PC0, E8 PF1, F1 PB15, F2 PB13, F3 PB1, F4 PC5, F5 PA5, F6 PA1, F7 PA0, F8 PC1, G1 PB14, G2 PB12, G3 PB10, G4 PB0, G5 PA6, G6 VDD, G7 VSS, G8 VSSA, H1 VDD, H2 VSS, H3 PB11, H4 NPOR, H5 PC4, H6 PA4, H7 PA3, H8 VDDA

## STM32F098VCHx
designator *  value STM32F098VCHx  Reference: U
STMicroelectronics Arm Cortex-M0 MCU, 256KB flash, 32KB RAM, 48 MHz, 1.65-1.95V, 87 GPIO, UFBGA100; ki_keywords: Arm Cortex-M0 STM32F0 STM32F0x8; ki_fp_filters: UFBGA*7x7mm*Layout12x12*P0.5mm*; Footprint: Package_BGA:UFBGA-100_7x7mm_Layout12x12_P0.5mm; Datasheet: https://www.st.com/resource/en/datasheet/stm32f098vc.pdf; Description_: STMicroelectronics Arm Cortex-M0 MCU, 256KB flash, 32KB RAM, 48 MHz, 1.65-1.95V, 87 GPIO, UFBGA100
pins: A1 PE3, A2 PE1, A3 PB8, A4 PF11, A5 PD7, A6 PD5, A7 PB4, A8 PB3, A9 PA15, A10 PA14, A11 PA13, A12 PA12, B1 PE4, B2 PE2, B3 PB9, B4 PB7, B5 PB6, B6 PD6, B7 PD4, B8 PD3, B9 PD1, B10 PC12, B11 PC10, B12 PA11, C1 PC13, C2 PE5, C3 PE0, C4 VDD, C5 PB5, C8 PD2, C9 PD0, C10 PC11, C11 PF6, C12 PA10, D1 PC14, D2 PE6, D3 VSS, D10 PA9, D11 PA8, D12 PC9, E1 PC15, E2 VBAT, E3 NC, E10 PC8, E11 PC7, E12 PC6, F1 PF0, F2 PF9, F11 VSS, F12 VSS, G1 PF1, G2 PF10, G11 VDDIO2, G12 VDD, H1 PC0, H2 NRST, H3 VDD, H10 PD15, H11 PD14, H12 PD13, J1 PF2, J2 PC1, J3 PC2, J10 PD12, J11 PD11, J12 PD10, K1 VSSA, K2 PC3, K3 PA2, K4 PA5, K5 PC4, K8 PD9, K9 PD8, K10 PB15, K11 PB14, K12 PB13, L1 PF3, L2 PA0, L3 PA3, L4 PA6, L5 PC5, L6 NPOR, L7 PE8, L8 PE10, L9 PE12, L10 PB10, L11 PB11, L12 PB12, M1 VDDA, M2 PA1, M3 PA4, M4 PA7, M5 PB0, M6 PB1, M7 PE7, M8 PE9, M9 PE11, M10 PE13, M11 PE14, M12 PE15

## STM32F098VCTx
designator *  value STM32F098VCTx  Reference: U
STMicroelectronics Arm Cortex-M0 MCU, 256KB flash, 32KB RAM, 48 MHz, 1.65-1.95V, 87 GPIO, LQFP100; ki_keywords: Arm Cortex-M0 STM32F0 STM32F0x8; ki_fp_filters: LQFP*14x14mm*P0.5mm*; Footprint: Package_QFP:LQFP-100_14x14mm_P0.5mm; Datasheet: https://www.st.com/resource/en/datasheet/stm32f098vc.pdf; Description_: STMicroelectronics Arm Cortex-M0 MCU, 256KB flash, 32KB RAM, 48 MHz, 1.65-1.95V, 87 GPIO, LQFP100
pins: 1 PE2, 2 PE3, 3 PE4, 4 PE5, 5 PE6, 6 VBAT, 7 PC13, 8 PC14, 9 PC15, 10 PF9, 11 PF10, 12 PF0, 13 PF1, 14 NRST, 15 PC0, 16 PC1, 17 PC2, 18 PC3, 19 PF2, 20 VSSA, 21 VDDA, 22 PF3, 23 PA0, 24 PA1, 25 PA2, 26 PA3, 27 VSS, 28 VDD, 29 PA4, 30 PA5, 31 PA6, 32 PA7, 33 PC4, 34 PC5, 35 PB0, 36 PB1, 37 NPOR, 38 PE7, 39 PE8, 40 PE9, 41 PE10, 42 PE11, 43 PE12, 44 PE13, 45 PE14, 46 PE15, 47 PB10, 48 PB11, 49 VSS, 50 VDD, 51 PB12, 52 PB13, 53 PB14, 54 PB15, 55 PD8, 56 PD9, 57 PD10, 58 PD11, 59 PD12, 60 PD13, 61 PD14, 62 PD15, 63 PC6, 64 PC7, 65 PC8, 66 PC9, 67 PA8, 68 PA9, 69 PA10, 70 PA11, 71 PA12, 72 PA13, 73 PF6, 74 VSS, 75 VDDIO2, 76 PA14, 77 PA15, 78 PC10, 79 PC11, 80 PC12, 81 PD0, 82 PD1, 83 PD2, 84 PD3, 85 PD4, 86 PD5, 87 PD6, 88 PD7, 89 PB3, 90 PB4, 91 PB5, 92 PB6, 93 PB7, 94 PF11, 95 PB8, 96 PB9, 97 PE0, 98 PE1, 99 VSS, 100 VDD